# Altium schematic symbol library M20-7820446.SchLib: 1 symbol
Pins are listed as number, name and electrical type; pins without a type are passive.

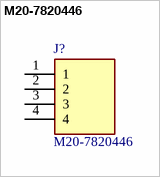
[diagram p0: symbol M20-7820446]

## M20-7820446
designator J?
M20 Socket, Sil, Vertical, 4W,2.54Mm HARWIN 2.54mm 4 Way 1 Row Straight PCB Socket Through Hole Socket Strip; Geometry.Height: 8.65mm; Mouser Part Number: 855-M20-7820446; Mouser Price/Stock: https://www.mouser.co.uk/ProductDetail/Harwin/M20-7820446?qs=vF78I%252BjhbY8%252Bno0H8mp9XA%3D%3D; Manufacturer_Name: Harwin; Manufacturer_Part_Number: M20-7820446; Datasheet Link: https://cdn.harwin.com/pdfs/M20-782.pdf
footprint RHDR4W70P0X254_1X4_1056X250X865P
pins: 1, 2, 3, 4